# Altium footprint library Pneumatics_Board_Library.PcbLib: 8 footprints
Each footprint in its own frame and in the unit in brackets; x right, y up, seen from the top. Pads: shape width x height; smd on the part's side, far side on the other; paste and mask are expansions set on the pad; w line width, h text height; cw(c..) or ccw(c..) is an arc to the next point about the centre after c.
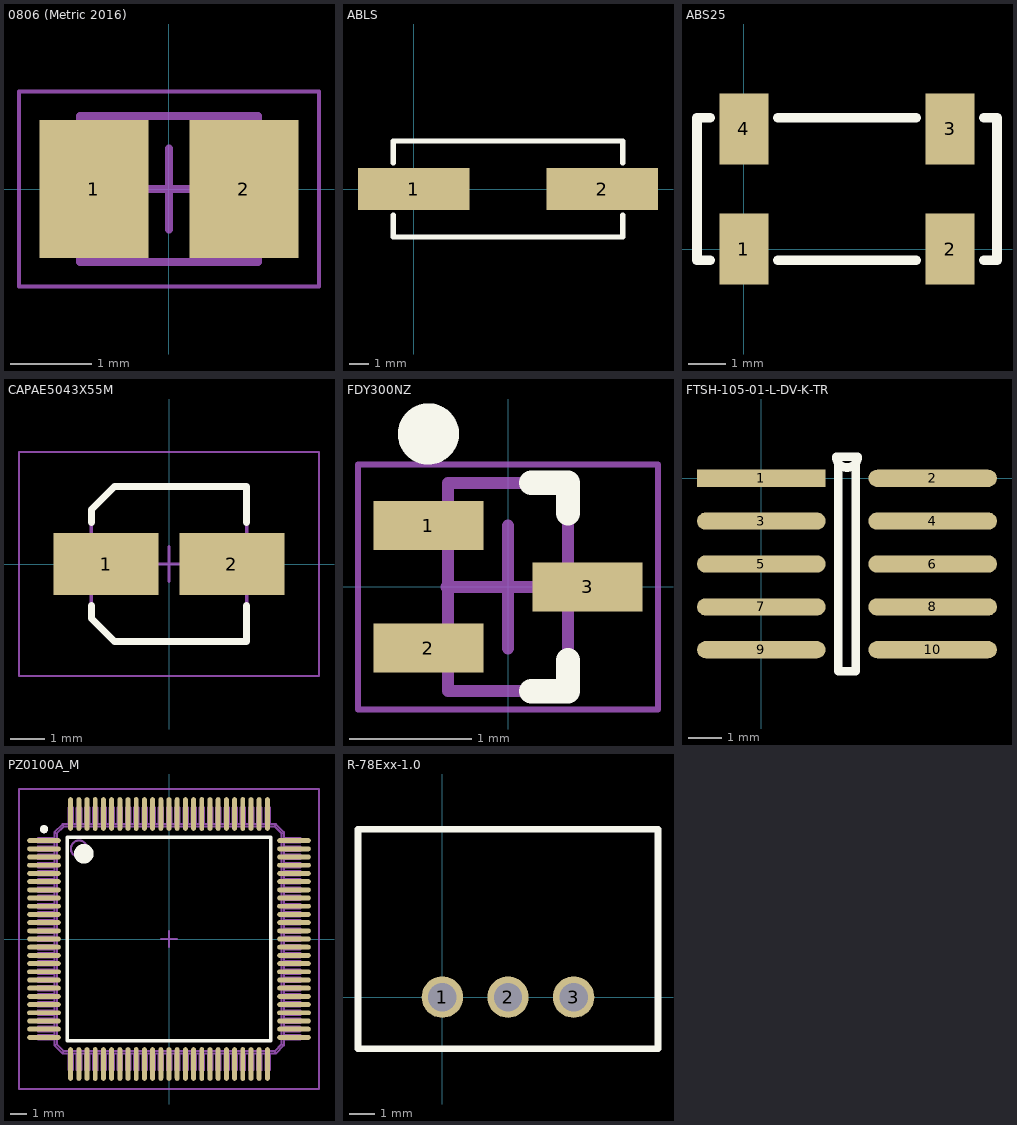
[diagram p0: the footprints below, top view; thin cyan lines are the x and y axes]

## 0806 (Metric 2016) [mm] "Molded Inductor, 2-Leads, Body 2.00x1.60mm, IPC Medium Density"
height 1
pads (2):
  rect 1.35x1.7 smd: 1(-0.925,0) 2(0.925,0)
Mechanical 13:
  lines w0.1: -1.1,-0.9 -1.1,0.9 1.1,0.9 1.1,-0.9 -1.1,-0.9
Mechanical 15:
  lines w0.05: -1.85,-1.2 -1.85,1.2 1.85,1.2 1.85,-1.2 -1.85,-1.2
  lines w0.1: -0.5,0 0.5,0 ; 0,-0.5 0,0.5
3D body "INDM2016X10N.step": height 1, standoff 0, extent -1.32,-0.9 1.32,0.9

## ABLS [mm] "SMD Low Profile Crystal - 3.579545 MHz to 75 MHz"
height 4.2
pads (2):
  rect 5.6x2.1 smd: 1(0,0) 2(9.5,0)
Top Overlay:
  lines w0.254: -1.025,-1.3 -1.025,-2.425 10.525,-2.425 10.525,-1.3 ; -1.025,1.3 -1.025,2.425 10.525,2.425 10.525,1.3

## ABS25 [mm] "32.768 kHz Low Frequency SMD Crystal"
height 2.5
pads (4):
  rect 1.3x1.9 smd: 1(0,0) 2(5.5,0) 3(5.5,3.2) 4(0,3.2)
Top Overlay:
  lines w0.254: -0.9,-0.3 -1.25,-0.3 -1.25,3.5 -0.9,3.5 ; 0.9,-0.3 4.6,-0.3 ; 0.9,3.5 4.6,3.5 ; 6.4,-0.3 6.75,-0.3 6.75,3.5 6.4,3.5

## CAPAE5043X55M [mm] "Aluminum Electrolytic Capacitor, Body 4.30x4.30x5.50mm, IPC Low Density"
height 5.5
pads (2):
  rect 3.05x1.8 smd: 1(-1.825,0) 2(1.825,0)
Top Overlay:
  lines w0.2: -2.25,-1.2 -2.25,-1.575 -1.575,-2.25 2.25,-2.25 2.25,-1.2 ; -2.25,1.2 -2.25,1.575 -1.575,2.25 2.25,2.25 2.25,1.2
Mechanical 13:
  lines w0.1: -2.25,-1.575 -2.25,1.575 -1.575,2.25 2.25,2.25 2.25,-2.25 -1.575,-2.25 -2.25,-1.575
Mechanical 15:
  lines w0.05: -4.35,-3.25 4.35,-3.25 4.35,3.25 -4.35,3.25 -4.35,-3.25
  lines w0.1: -0.5,0 0.5,0 ; 0,-0.5 0,0.5
3D body: height 5.5, standoff 0, extent -2.25,-2.25 2.25,2.243
3D body: height 1.84, standoff 0, extent -2.25,-2.25 2.25,2.25

## FDY300NZ [mm] "N-Channel 20V 600mA (Ta) 625mW (Ta) Surface Mount SC-89-3"
height 0.78
pads (3):
  rect 0.9x0.4 smd: 1(-0.65,0.5) 2(-0.65,-0.5) 3(0.65,0)
Top Overlay:
  circle w0.25: c-0.65,1.25 r0.125
  lines w0.2: 0.19,-0.85 0.49,-0.85 0.49,-0.6 ; 0.19,0.85 0.49,0.85 0.49,0.6
Mechanical 13:
  lines w0.1: -0.49,-0.85 -0.49,0.85 0.49,0.85 0.49,-0.85 -0.49,-0.85
Mechanical 15:
  lines w0.05: -1.225,-1 -1.225,1 1.225,1 1.225,-1 -1.225,-1
  lines w0.1: -0.5,0 0.5,0 ; 0,-0.5 0,0.5
3D body: height 0.78, standoff 0, extent -0.49,-0.85 0.49,0.85

## FTSH-105-01-L-DV-K-TR [mil] "CONN HEADER 10POS DUAL .05\" SMD"
height 218.9
pads (10):
  rect 150x20 smd: 1(0,0)
  oval 150x20 smd: 2(200,0) 3(0,-50) 4(200,-50) 5(0,-100) 6(200,-100) 7(0,-150) 8(200,-150) 9(0,-200) 10(200,-200)
Top Overlay:
  lines w10: 87.5,25 ccw(c100,25) 112.5,25 90,25 90,-225 110,-225 110,25 87.5,25

## PZ0100A_M [mm] "SimpleLink Ultra-Low-Power 32-Bit ARM Cortex-M4F MCU With Precision ADC, 256KB Flash and 64KB RAM"
height 1.6
pads (100):
  oval 2.05x0.3 smd paste+0 mask+0.051: 1(-7.625,6) 2(-7.625,5.5) 3(-7.625,5) 4(-7.625,4.5) 5(-7.625,4) 6(-7.625,3.5) 7(-7.625,3) 8(-7.625,2.5) 9(-7.625,2) 10(-7.625,1.5) 11(-7.625,1) 12(-7.625,0.5) 13(-7.625,0) 14(-7.625,-0.5) 15(-7.625,-1) 16(-7.625,-1.5) 17(-7.625,-2) 18(-7.625,-2.5) 19(-7.625,-3) 20(-7.625,-3.5) 21(-7.625,-4) 22(-7.625,-4.5) 23(-7.625,-5) 24(-7.625,-5.5) 25(-7.625,-6) 51(7.625,-6) 52(7.625,-5.5) 53(7.625,-5) 54(7.625,-4.5) 55(7.625,-4) 56(7.625,-3.5) 57(7.625,-3) 58(7.625,-2.5) 59(7.625,-2) 60(7.625,-1.5) 61(7.625,-1) 62(7.625,-0.5) 63(7.625,0) 64(7.625,0.5) 65(7.625,1) 66(7.625,1.5) 67(7.625,2) 68(7.625,2.5) 69(7.625,3) 70(7.625,3.5) 71(7.625,4) 72(7.625,4.5) 73(7.625,5) 74(7.625,5.5) 75(7.625,6)
  oval 0.3x2.05 smd paste+0 mask+0.051: 26(-6,-7.625) 27(-5.5,-7.625) 28(-5,-7.625) 29(-4.5,-7.625) 30(-4,-7.625) 31(-3.5,-7.625) 32(-3,-7.625) 33(-2.5,-7.625) 34(-2,-7.625) 35(-1.5,-7.625) 36(-1,-7.625) 37(-0.5,-7.625) 38(0,-7.625) 39(0.5,-7.625) 40(1,-7.625) 41(1.5,-7.625) 42(2,-7.625) 43(2.5,-7.625) 44(3,-7.625) 45(3.5,-7.625) 46(4,-7.625) 47(4.5,-7.625) 48(5,-7.625) 49(5.5,-7.625) 50(6,-7.625) 76(6,7.625) 77(5.5,7.625) 78(5,7.625) 79(4.5,7.625) 80(4,7.625) 81(3.5,7.625) 82(3,7.625) 83(2.5,7.625) 84(2,7.625) 85(1.5,7.625) 86(1,7.625) 87(0.5,7.625) 88(0,7.625) 89(-0.5,7.625) 90(-1,7.625) 91(-1.5,7.625) 92(-2,7.625) 93(-2.5,7.625) 94(-3,7.625) 95(-3.5,7.625) 96(-4,7.625) 97(-4.5,7.625) 98(-5,7.625) 99(-5.5,7.625) 100(-6,7.625)
Top Overlay:
  circle w0.25: c-7.625,6.7 r0.125
  circle w0.6: c-5.2,5.2 r0.3
  lines w0.2: -6.2,-6.2 -6.2,6.2 6.2,6.2 6.2,-6.2 -6.2,-6.2
Mechanical 13:
  drawing of 1326 lines, arcs and shapes, not listed
  text ".Designator" at -1.8,-0.4 h1.27
Mechanical 15:
  lines w0.1: -0.5,0 0.5,0 ; 0,-0.5 0,0.5 ; -9.15,-9.15 -9.15,9.15 9.15,9.15 9.15,-9.15 -9.15,-9.15
3D body "PZ0100A.stp": height 1.5, standoff 0, extent -8.001,-8.001 8.021,8.021

## R-78Exx-1.0 [mm] "1A DC/DC Voltage Converter"
height 10.4
pads (3):
  round 1.6 hole 1.1: 1(0,0) 2(2.54,0) 3(5.08,0)
Top Overlay:
  lines w0.254: -3.26,-2 -3.26,6.5 8.34,6.5 8.34,-2 -3.26,-2